# EAGLE library part PCA9685BS,118 (library PCA9685BS_118)
PCA9685 - 16-channel, 12-bit PWM Fm+ I2C-bus LED controller
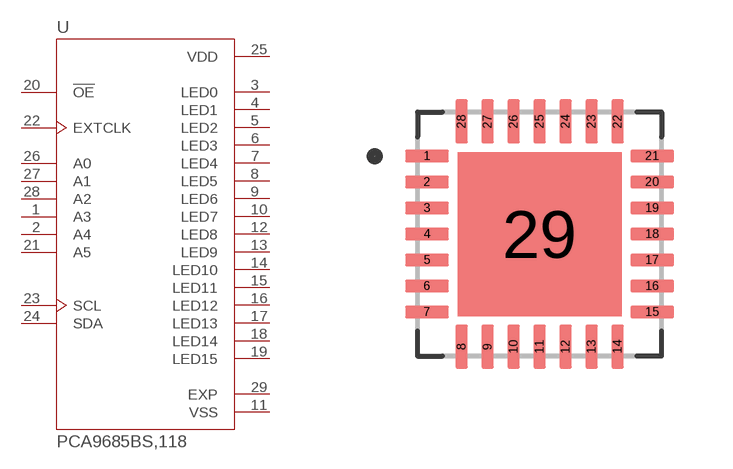
[diagram p0: symbol with the pads of QFN65P600X600X100-29N; footprint QFN65P600X600X100-29N]

Designator prefix U

## PCA9685BS,118 (Availability: Unavailable; Description: LED Driver IC 16 Output Linear PWM Dimming 25mA 28-HVQFN _6x6_; MF: NXP USA; MP: PCA9685BS,118; Package: HVQFN-28 NXP Semiconductors; Price: None)  [QFN65P600X600X100-29N]
1  A3  in
2  A4  in
3  LED0  out
4  LED1  out
5  LED2  out
6  LED3  out
7  LED4  out
8  LED5  out
9  LED6  out
10  LED7  out
11  VSS  pwr
12  LED8  out
13  LED9  out
14  LED10  out
15  LED11  out
16  LED12  out
17  LED13  out
18  LED14  out
19  LED15  out
20  !OE  in
21  A5  in
22  EXTCLK  in
23  SCL  in
24  SDA
25  VDD  pwr
26  A0  in
27  A1  in
28  A2  in
29  EXP  pwr

## Footprint QFN65P600X600X100-29N (pad centres in mm)
smd 1.1 x 0.32: 1 -2.815,1.95; 2 -2.815,1.3; 3 -2.815,0.65; 4 -2.815,0; 5 -2.815,-0.65; 6 -2.815,-1.3; 7 -2.815,-1.95; 15 2.815,-1.95; 16 2.815,-1.3; 17 2.815,-0.65; 18 2.815,0; 19 2.815,0.65; 20 2.815,1.3; 21 2.815,1.95
smd 0.32 x 1.1: 8 -1.95,-2.815; 9 -1.3,-2.815; 10 -0.65,-2.815; 11 0,-2.815; 12 0.65,-2.815; 13 1.3,-2.815; 14 1.95,-2.815; 22 1.95,2.815; 23 1.3,2.815; 24 0.65,2.815; 25 0,2.815; 26 -0.65,2.815; 27 -1.3,2.815; 28 -1.95,2.815
smd 4.1 x 4.1: 29 0,0